# Altium footprint library ECB01-Kit-V1.0.PcbLib: 9 footprints
Each footprint in its own frame and in the unit in brackets; x right, y up, seen from the top. Pads: shape width x height; smd on the part's side, far side on the other; paste and mask are expansions set on the pad; w line width, h text height; cw(c..) or ccw(c..) is an arc to the next point about the centre after c.
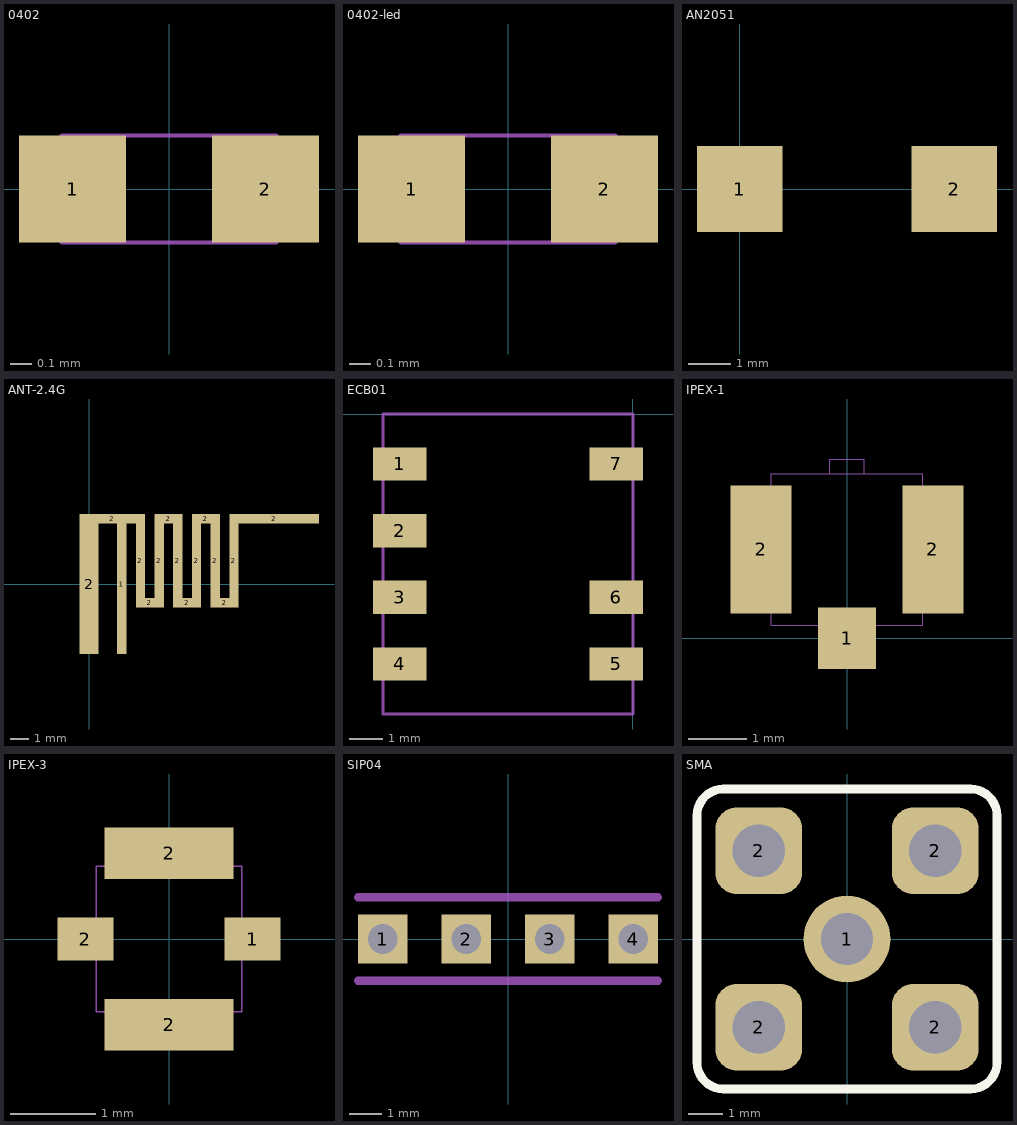
[diagram p0: the footprints below, top view; thin cyan lines are the x and y axes]

## 0402 [mm]
pads (2):
  rect 0.5x0.5 smd paste+0: 1(-0.45,0) 2(0.45,0)
Mechanical 1:
  lines w0.02: -0.25,-0.25 -0.25,0.25 ; 0.25,-0.25 0.25,0.25 ; -0.5,-0.25 0.5,-0.25 0.5,0.25 -0.5,0.25 -0.5,-0.25

## 0402-led [mm]
pads (2):
  rect 0.5x0.5 smd paste+0: 1(-0.45,0) 2(0.45,0)
Mechanical 1:
  lines w0.02: -0.25,-0.25 -0.25,0.25 ; 0.25,-0.25 0.25,0.25 ; -0.5,-0.25 -0.5,0.25 0.5,0.25 0.5,-0.25 -0.5,-0.25
  text "+" at -0.67,-0.1 h0.2

## AN2051 [mm]
height 0.85
pads (2):
  rect 2x2 smd: 1(0,0) 2(5,0)

## ANT-2.4G [mm]
pads (15):
  rect 0.5x7.5 smd: 1(1.75,0)
  rect 1x7.5 smd: 2(0,0)
  rect 3.5x0.5 smd: 2(1.25,3.5)
  rect 0.5x5 smd: 2(2.75,1.25) 2(3.75,1.25) 2(4.75,1.25) 2(5.75,1.25) 2(6.75,1.25) 2(7.75,1.25)
  rect 1.5x0.5 smd: 2(3.25,-1) 2(4.25,3.5) 2(5.25,-1) 2(6.25,3.5) 2(7.25,-1)
  rect 4.8x0.5 smd: 2(9.9,3.5)

## ECB01 [mm]
pads (7):
  rect 1.6x1 smd: 1(-7,-1.5) 2(-7,-3.5) 3(-7,-5.5) 4(-7,-7.5) 5(-0.5,-7.5) 6(-0.5,-5.5) 7(-0.5,-1.5)
Mechanical 1:
  lines w0.1: -7.5,-9 -7.5,0 0,0 0,-9 -7.5,-9

## IPEX-1 [mm]
pads (3):
  rect 1x1.05 smd: 1(0,0)
  rect 1.05x2.2 smd: 2(-1.475,1.525) 2(1.475,1.525)
Mechanical 1:
  lines w0.02: -1.3,0.625 -1.5,0.625 -1.5,2.425 -1.3,2.425 ; -0.3,0.225 -0.3,-0.025 0.3,-0.025 0.3,0.225 ; -0.3,2.825 -0.3,3.075 0.3,3.075 0.3,2.825 ; 1.3,0.625 1.5,0.625 1.5,2.425 1.3,2.425 ; -1.3,0.225 -1.3,2.825 1.3,2.825 1.3,0.225 -1.3,0.225

## IPEX-3 [mm]
pads (4):
  rect 0.65x0.5 smd: 1(0.975,0) 2(-0.975,0)
  rect 1.5x0.6 smd: 2(0,-1) 2(0,1)
Mechanical 1:
  lines w0.02: -0.855,-0.175 -1,-0.175 -1,0.175 -0.855,0.175 ; -0.65,-0.85 -0.65,-1 0.65,-1 0.65,-0.85 ; -0.65,0.85 -0.65,1 0.65,1 0.65,0.85 ; 0.855,-0.175 1,-0.175 1,0.175 0.855,0.175 ; -0.85,-0.85 -0.85,0.85 0.85,0.85 0.85,-0.85 -0.85,-0.85

## SIP04 [mm]
pads (4):
  rect 1.5x1.5 hole 0.9: 1(-3.81,0) 2(-1.27,0) 3(1.27,0) 4(3.81,0)
Mechanical 1:
  lines w0.25: -4.56,-1.27 4.56,-1.27 ; -4.56,1.27 4.56,1.27

## SMA [mm]
pads (5):
  round 2.5 hole 1.5: 1(0,0)
  rrect50% 2.5x2.5 hole 1.5: 2(-2.54,-2.54) 2(-2.54,2.54) 2(2.54,-2.54) 2(2.54,2.54)
Top Overlay:
  lines w0.254: -4.318,-3.556 ccw(c-3.556,-3.556) -3.556,-4.318 3.556,-4.318 ccw(c3.556,-3.556) 4.318,-3.556 4.318,3.556 ccw(c3.556,3.556) 3.556,4.318 -3.556,4.318 ccw(c-3.556,3.556) -4.318,3.556 -4.318,-3.556
3D body "Samtec-SMA-J-P-H-RA-TH1 (1).step": height 3.24, standoff -10.86, extent -3.556,-11.614 3.444,3.486